# Altium schematic symbol library 2020-04-03_05-14-13.SchLib: 2 symbols
Pins are listed as number, name and electrical type; pins without a type are passive.

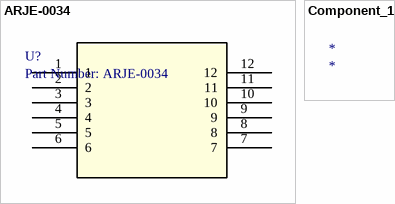
[diagram p0: symbols ARJE-0034 to Component_1]

## ARJE-0034
designator U?, comment Part Number: ARJE-0034
No Description Available; Vendor: Abracon; Built_By: EMA_Matt; SourceLibrary: Abracon_10-11-2019; Manufacturer_Part_Number: ARJE-0034; Copyright: Copyright (C) 2018 Accelerated Designs. All rights reserved; RefDes: RefDes; Type: DEV; Value: Value
footprint SMD_ARJE_ABR
pins: 1, 2, 3, 4, 5, 6, 7, 8, 9, 10, 11, 12

## Component_1
designator *